# EAGLE library part MAX4377*? (library SteMarie)
Maxim Dual High-Side Current-Sense Amplifier with Internal Gain General Description The MAX4376/MAX4377/MAX4378 single, dual, and quad precision high-side current-sense amplifiers are available in space-saving packages. They feature buffered voltage outputs that eliminate the need for gain-setting resistors and are ideal for today?s notebook computers, cell phones, and other systems where current monitoring is critical. These precision devices are offered in three fixed-gain versions of 20, 50, and 100: GAIN SUFFIX 20 T 50 F 100 H For example, MAX4376TAUK is a single high-side amplifier with a gain of 20. High-side current monitoring is especially useful in battery- powered systems since it does not interfere with the ground path of the battery charger. The input common- mode range of 0 to +28V is independent of the supply voltage and ensures that the current-sense feedback remains viable even when connected to a battery pack in deep discharge. The full-scale current reading can be set by choosing the appropriate voltage gain and external-sense resistor. This capability offers a high level of integration and flexibility, resulting in a simple and compact currentsense solution. The MAX4376/MAX4377/MAX4378 operate over a supply voltage range of +3V to +28V, draw 1mA of supply current per amplifier, and operate over the full automotive temperature range of -40°C to +125°C. These devices have a wide bandwidth of 2MHz, making them suitable for use inside battery-charger control loops. The buffered outputs drive up to 2mA of output current into a ground-referenced load.
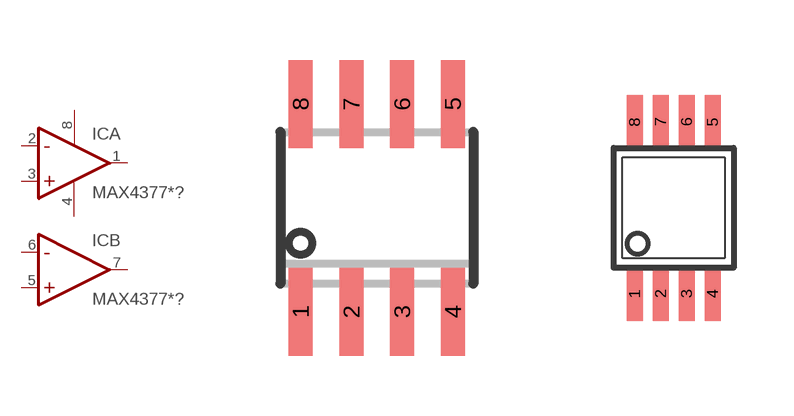
[diagram p2: symbol with the pads of SO08; footprints SO08, 8UMAX]

Designator prefix IC; gates A=AMP B=AMP PWR=PWR-VCC/GND

## MAX4377FASA+ (GAIN: 50), MAX4377HASA+ (GAIN: 100), MAX4377TASA+ (GAIN: 20)  [SO08]
1  A:OUT  out
2  A:-IN  in
3  A:+IN  in
4  PWR:GND  pwr
5  B:+IN  in
6  B:-IN  in
7  B:OUT  out
8  PWR:VCC  pwr

## MAX4377FAUA+ (GAIN: 50), MAX4377HAUA+ (GAIN: 100), MAX4377TAUA+ (GAIN: 20)  [8UMAX]
Pads as for SO08

## Footprint SO08 (pad centres in mm)
Small Outline Package 8 NS Package M08A
smd 0.6 x 2.2: 1 -1.905,-2.6; 2 -0.635,-2.6; 3 0.635,-2.6; 4 1.905,-2.6; 5 1.905,2.6; 6 0.635,2.6; 7 -0.635,2.6; 8 -1.905,2.6

## Footprint 8UMAX (pad centres in mm)
Maxim 8 uMAX recommended footprint From drawings 90-0092 rev B <http://pdfserv.maxim-ic.com/land_patterns/90-0092.PDF> and 21-0036 rev L <http://pdfserv.maxim-ic.com/package_dwgs/21-0036.PDF>.
smd 0.4 x 1.35: 1 -0.975,-2.15; 2 -0.325,-2.15; 3 0.325,-2.15; 4 0.975,-2.15; 5 0.975,2.15; 6 0.325,2.15; 7 -0.325,2.15; 8 -0.975,2.15